# Altium footprint library EFR32BG13P733F512GM48-B.PcbLib: 1 footprints
Each footprint in its own frame and in the unit in brackets; x right, y up, seen from the top. Pads: shape width x height; smd on the part's side, far side on the other; paste and mask are expansions set on the pad; w line width, h text height; cw(c..) or ccw(c..) is an arc to the next point about the centre after c.
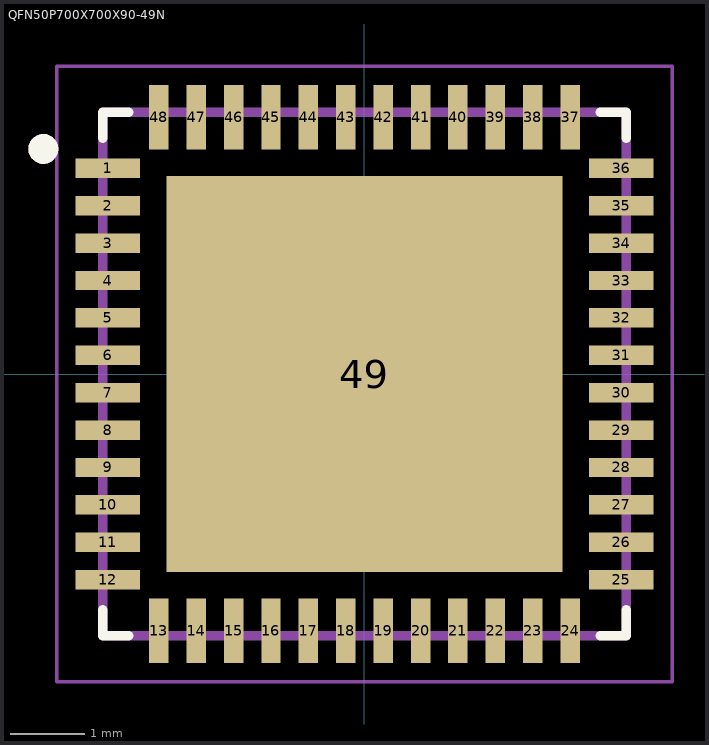
[diagram p0: the footprint, top view; thin cyan lines are the x and y axes]

## QFN50P700X700X90-49N [mm]
pads (49):
  rect 0.86x0.26 smd: 1(-3.435,2.75) 2(-3.435,2.25) 3(-3.435,1.75) 4(-3.435,1.25) 5(-3.435,0.75) 6(-3.435,0.25) 7(-3.435,-0.25) 8(-3.435,-0.75) 9(-3.435,-1.25) 10(-3.435,-1.75) 11(-3.435,-2.25) 12(-3.435,-2.75) 25(3.435,-2.75) 26(3.435,-2.25) 27(3.435,-1.75) 28(3.435,-1.25) 29(3.435,-0.75) 30(3.435,-0.25) 31(3.435,0.25) 32(3.435,0.75) 33(3.435,1.25) 34(3.435,1.75) 35(3.435,2.25) 36(3.435,2.75)
  rect 0.26x0.86 smd: 13(-2.75,-3.435) 14(-2.25,-3.435) 15(-1.75,-3.435) 16(-1.25,-3.435) 17(-0.75,-3.435) 18(-0.25,-3.435) 19(0.25,-3.435) 20(0.75,-3.435) 21(1.25,-3.435) 22(1.75,-3.435) 23(2.25,-3.435) 24(2.75,-3.435) 37(2.75,3.435) 38(2.25,3.435) 39(1.75,3.435) 40(1.25,3.435) 41(0.75,3.435) 42(0.25,3.435) 43(-0.25,3.435) 44(-0.75,3.435) 45(-1.25,3.435) 46(-1.75,3.435) 47(-2.25,3.435) 48(-2.75,3.435)
  rect 5.3x5.3 smd: 49(0,0)
Top Overlay:
  circle w0.2: c-4.295,3.01 r0.1
  lines w0.127: -3.5,-3.15 -3.5,-3.5 -3.15,-3.5 ; -3.5,3.15 -3.5,3.5 -3.15,3.5 ; 3.15,-3.5 3.5,-3.5 3.5,-3.15 ; 3.15,3.5 3.5,3.5 3.5,3.15
Top Paste:
  region: 0.341,-0.34 2.3,-0.34 2.3,-2.304 0.341,-2.304
  region: -2.3,-0.34 -0.34,-0.34 -0.34,-2.3 -2.3,-2.3
  region: -2.3,2.3 -0.34,2.3 -0.34,0.34 -2.3,0.34
  region: 0.341,2.3 2.3,2.3 2.3,0.341 0.341,0.341
Mechanical 1:
  circle w0.2: c-4.295,3.01 r0.1
  lines w0.127: -3.5,-3.5 -3.5,3.5 3.5,3.5 3.5,-3.5 -3.5,-3.5
Mechanical 4:
  lines w0.05: -4.115,-4.115 -4.115,4.115 4.115,4.115 4.115,-4.115 -4.115,-4.115